# Altium footprint library Studer.PCBLIB: 3 footprints
Each footprint in its own frame and in the unit in brackets; x right, y up, seen from the top. Pads: shape width x height; smd on the part's side, far side on the other; paste and mask are expansions set on the pad; w line width, h text height; cw(c..) or ccw(c..) is an arc to the next point about the centre after c.
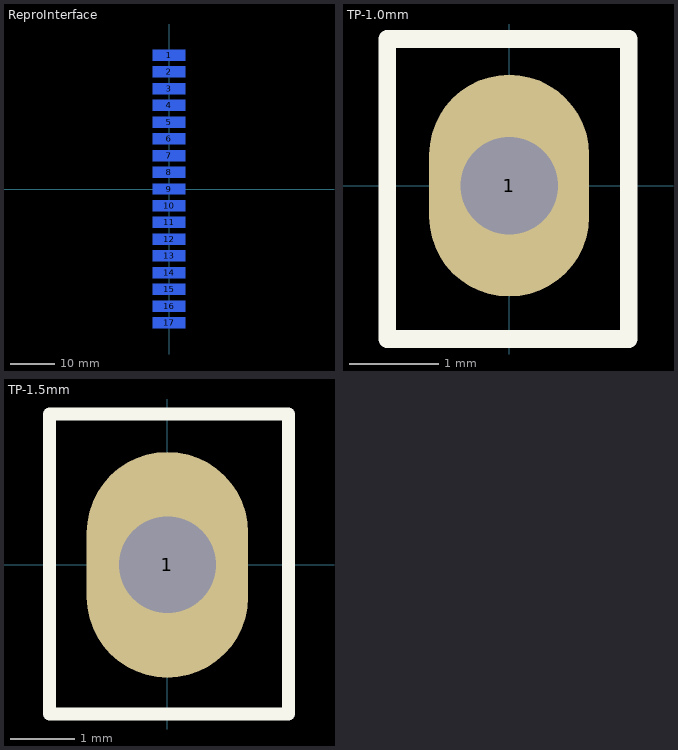
[diagram p0: the footprints below, top view; thin cyan lines are the x and y axes]

## ReproInterface [mm] "Studer A80 RC Reproduce Card 1.080.986-12 Interface"
height 14
pads (17):
  rect 7.35x2.5 smd far side: 1(0,30.5) 2(0,26.688) 3(0,22.875) 4(0,19.062) 5(0,15.25) 6(0,11.438) 7(0,7.625) 8(0,3.812) 9(0,0) 10(0,-3.812) 11(0,-7.625) 12(0,-11.438) 13(0,-15.25) 14(0,-19.062) 15(0,-22.875) 16(0,-26.688) 17(0,-30.5)

## TP-1.0mm [mm] "Test Point with 1.0mm hole"
pads (1):
  oval 1.8x2.5 hole 1.1: 1(0,0)
Top Overlay:
  lines w0.2: -1.372,-1.727 -1.372,1.651 1.346,1.651 1.346,-1.727 -1.372,-1.727

## TP-1.5mm [mm] "Test Point with 1.5mm hole"
pads (1):
  oval 2.5x3.5 hole 1.5: 1(0,0)
Top Overlay:
  lines w0.2: -1.829,-2.311 1.88,-2.311 1.88,2.337 -1.829,2.337 -1.829,-2.311